# EAGLE library part 691402910006B (library WR-TBL Spring Clamp)
WR-TBL Serie 4029 - 2.54 mm Screwless Horizontal Entry KIND PROPERTIES Pitch 2.54 mm MATERIAL PROPERTIES Insulator Material PA66 Insulator Flammability Rating UL94 V-0 Contact Material Brass Contact Plating Tin Wire Guard Material Stainless Steel GENERAL INFORMATION Operating Temperature -40 up to +105 °C Compliance RoHS ELECTRICAL PROPERTIES IR cULus 6 A Working Voltage [cULus] 150 V (AC) Withstanding Voltage [cULus] 2000 V (AC) Contact Resistance [cULus] 20 mΩ Mechanical Properties Wire Strip Length 9 up to 10 (mm) Wire Properties Solid Wire Section (AWG) 20 to 26 (AWG) Solid Wire Section (Metric) 0.518 to 0.129 (mm²) Stranded Wire Section (AWG) 20 to 26 (AWG) Stranded Wire Section (Metric) 0.518 to 0.129 (mm²) CERTIFICATION cULus Approval E315414 Packaging Properties Packaging Box Details see: www.we-online.com/en/components/products/TBL_2_54_4029_SCREWLESS_HORIZONTAL_ENTRY_69140291000XB/ Updated by Ella Wu 2019-12-31 2019(C) Würth Elektronik
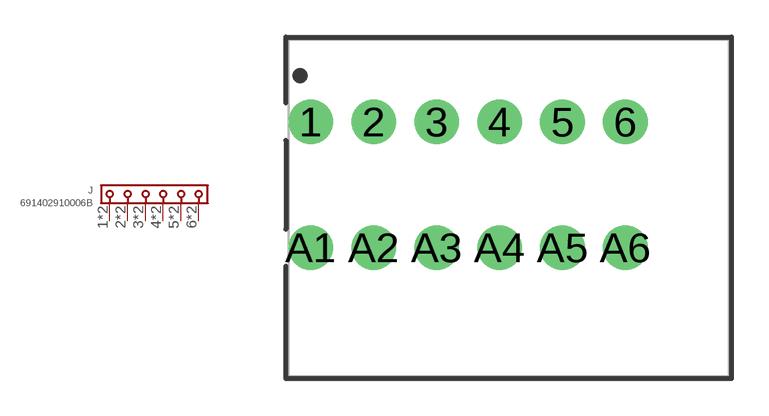
[diagram p120: symbol with the pads of 691402910006B; footprint 691402910006B]

Designator prefix J

## 691402910006B (APPLICATION: Screwless; DATASHEET: https://www.we-online.com/redexpert/spec/691402910006B?ae; IR-UL: 6A; MODULARITY: No; MOUNT: THT; PART-NUMBER: 691402910006B; PINS: 6; PITCH: 2.54mm; TYPE: Horizontal; VALUE: 691402910006B; WIRE: 20 to 26 (AWG) 0.518 to 0.129 (mm²); WORKING-VOLTAGE-UL: 150V (AC))  [691402910006B]
1  1  pas
2  2  pas
3  3  pas
4  4  pas
5  5  pas
6  6  pas
A1  1  pas
A2  2  pas
A3  3  pas
A4  4  pas
A5  5  pas
A6  6  pas

## Footprint 691402910006B (pad centres in mm)
WR-TBL Serie 4029 - 2.54 mm Screwless Horizontal Entry Max Height = 10mm , Pitch 2.54mm , 6pins
drill 1.2: 1 -6.35,2.54; 2 -3.81,2.54; 3 -1.27,2.54; 4 1.27,2.54; 5 3.81,2.54; 6 6.35,2.54; A1 -6.35,-2.54; A2 -3.81,-2.54; A3 -1.27,-2.54; A4 1.27,-2.54; A5 3.81,-2.54; A6 6.35,-2.54